# Altium schematic symbol library 1G53.SchLib: 1 symbol
Pins are listed as number, name and electrical type; pins without a type are passive.

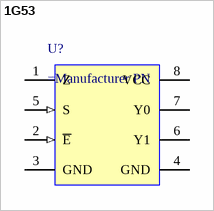
[diagram p0: symbol 1G53]

## 1G53
designator U?
2-Channel Analog Mux/Demux
pins: 1 Z, 2 ~{E} (in), 3 GND (power), 4 GND (power), 5 S (in), 6 Y1, 7 Y0, 8 VCC (power)